# Altium footprint library 691 356 300 0xx B.PcbLib: 6 footprints
Each footprint in its own frame and in the unit in brackets; x right, y up, seen from the top. Pads: shape width x height; smd on the part's side, far side on the other; paste and mask are expansions set on the pad; w line width, h text height; cw(c..) or ccw(c..) is an arc to the next point about the centre after c.
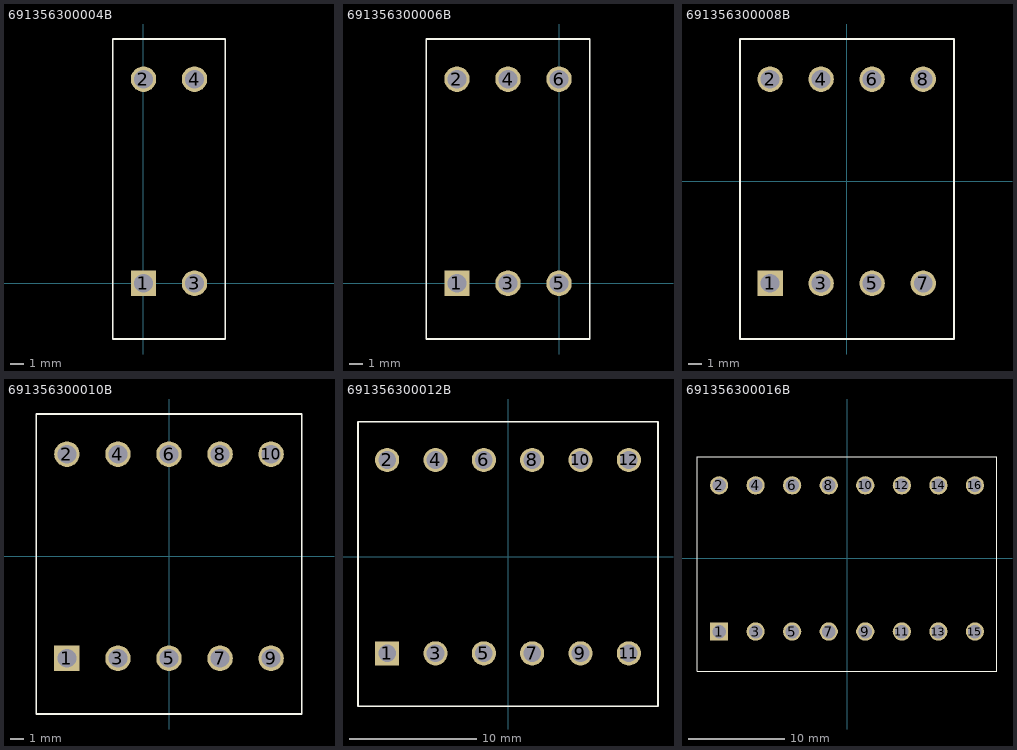
[diagram p0: the footprints below, top view; thin cyan lines are the x and y axes]

## 691356300004B [mm] "3,81mm - PCB - Double level - Vertical - 04p"
height 21.9
pads (4):
  rect 1.9x1.9 hole 1.4: 1(0,0)
  round 1.9 hole 1.4: 2(0,15.24) 3(3.81,0) 4(3.81,15.24)
Top Overlay:
  lines w0.127: -2.3,-4.16 -2.3,18.24 6.11,18.24 6.11,-4.16 -2.3,-4.16
3D body: height 21.91, standoff -3.39, extent -2.27,-4.16 6.14,18.24

## 691356300006B [mm] "3,81mm - PCB - Double level - Vertical - 06p"
height 21.9
pads (6):
  rect 1.9x1.9 hole 1.4: 1(-7.62,0)
  round 1.9 hole 1.4: 2(-7.62,15.24) 3(-3.81,0) 4(-3.81,15.24) 5(0,0) 6(0,15.24)
Top Overlay:
  lines w0.127: -9.92,-4.16 2.3,-4.16 2.3,18.24 -9.92,18.24 -9.92,-4.16
3D body: height 21.91, standoff -3.39, extent -9.92,-4.16 2.3,18.24

## 691356300008B [mm] "3,81mm - PCB - Double level - Vertical - 08p"
height 21.9
pads (8):
  rect 1.9x1.9 hole 1.4: 1(-5.715,-7.62)
  round 1.9 hole 1.4: 2(-5.715,7.62) 3(-1.905,-7.62) 4(-1.905,7.62) 5(1.905,-7.62) 6(1.905,7.62) 7(5.715,-7.62) 8(5.715,7.62)
Top Overlay:
  lines w0.127: -7.955,-11.78 -7.955,10.62 8.015,10.62 8.015,-11.78 -7.955,-11.78
3D body: height 21.91, standoff -3.39, extent -7.985,-11.78 8.045,10.62

## 691356300010B [mm] "3,81mm - PCB - Double level - Vertical - 10p"
height 21.9
pads (10):
  rect 1.9x1.9 hole 1.4: 1(-7.62,-7.62)
  round 1.9 hole 1.4: 2(-7.62,7.62) 3(-3.81,-7.62) 4(-3.81,7.62) 5(0,-7.62) 6(0,7.62) 7(3.81,-7.62) 8(3.81,7.62) 9(7.62,-7.62) 10(7.62,7.62)
Top Overlay:
  lines w0.127: -9.92,-11.78 9.92,-11.78 9.92,10.62 -9.92,10.62 -9.92,-11.78
3D body: height 21.91, standoff -3.39, extent -9.92,-11.78 9.92,10.62

## 691356300012B [mm] "3,81mm - PCB - Double level - Vertical - 12p"
height 21.9
pads (12):
  rect 1.9x1.9 hole 1.4: 1(-9.525,-7.62)
  round 1.9 hole 1.4: 2(-9.525,7.62) 3(-5.715,-7.62) 4(-5.715,7.62) 5(-1.905,-7.62) 6(-1.905,7.62) 7(1.905,-7.62) 8(1.905,7.62) 9(5.715,-7.62) 10(5.715,7.62) 11(9.525,-7.62) 12(9.525,7.62)
Top Overlay:
  lines w0.127: -11.825,-11.78 -11.825,10.62 11.825,10.62 11.825,-11.78 -11.825,-11.78
3D body: height 21.91, standoff -3.39, extent -11.825,-11.78 11.825,10.62

## 691356300016B [mm] "3,81mm - PCB - Double level - Vertical - 16p"
height 21.9
pads (16):
  rect 1.9x1.9 hole 1.4: 1(-13.335,-7.62)
  round 1.9 hole 1.4: 2(-13.335,7.62) 3(-9.525,-7.62) 4(-9.525,7.62) 5(-5.715,-7.62) 6(-5.715,7.62) 7(-1.905,-7.62) 8(-1.905,7.62) 9(1.905,-7.62) 10(1.905,7.62) 11(5.715,-7.62) 12(5.715,7.62) 13(9.525,-7.62) 14(9.525,7.62) 15(13.335,-7.62) 16(13.335,7.62)
Top Overlay:
  lines w0.127: -15.635,-11.78 -15.635,10.62 15.635,10.62 15.635,-11.78 -15.635,-11.78
3D body: height 21.91, standoff -3.39, extent -15.635,-11.78 15.635,10.62